# EAGLE library part BQ32002 (library TinyWatch_eagle)
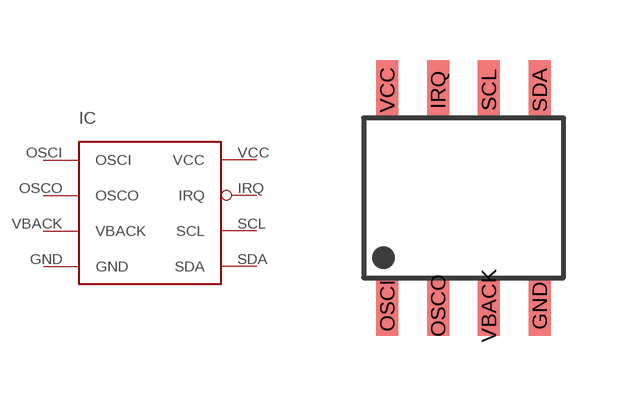
[diagram p0: symbol with the pads of SOIC-8; footprint SOIC-8]

Designator prefix IC

## BQ32002  [SOIC-8]
GND  GND
IRQ  IRQ
OSCI  OSCI
OSCO  OSCO
SCL  SCL
SDA  SDA
VBACK  VBACK
VCC  VCC

## Footprint SOIC-8 (pad centres in mm)
smd 0.55 x 1.5: GND 1.905,-2.7; IRQ -0.635,2.7; OSCI -1.905,-2.7; OSCO -0.635,-2.7; SCL 0.635,2.7; SDA 1.905,2.7; VBACK 0.635,-2.7; VCC -1.905,2.7